# EAGLE library part MICRO_SD (library FlightCPU)
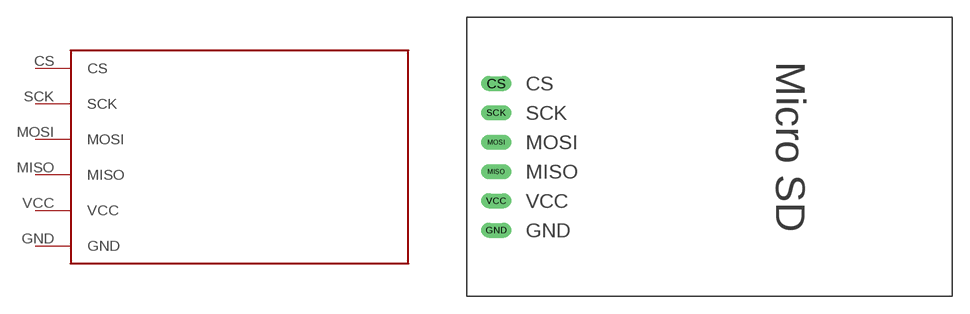
[diagram p3: symbol with the pads of MICROSD; footprint MICROSD]

Designator prefix -

## MICRO_SD  [MICROSD]
CS  CS
GND  GND
MISO  MISO
MOSI  MOSI
SCK  SCK
VCC  VCC

## Footprint MICROSD (pad centres in mm)
drill 0.8 long: CS 2.54,18.415; GND 2.54,5.715; MISO 2.54,10.795; MOSI 2.54,13.335; SCK 2.54,15.875; VCC 2.54,8.255